# Altium footprint library Quad Flat No Lead Square.PcbLib: 20 footprints (part 1 of 2)
Each footprint in its own frame and in the unit in brackets; x right, y up, seen from the top. Pads: shape width x height; smd on the part's side, far side on the other; paste and mask are expansions set on the pad; w line width, h text height; cw(c..) or ccw(c..) is an arc to the next point about the centre after c.
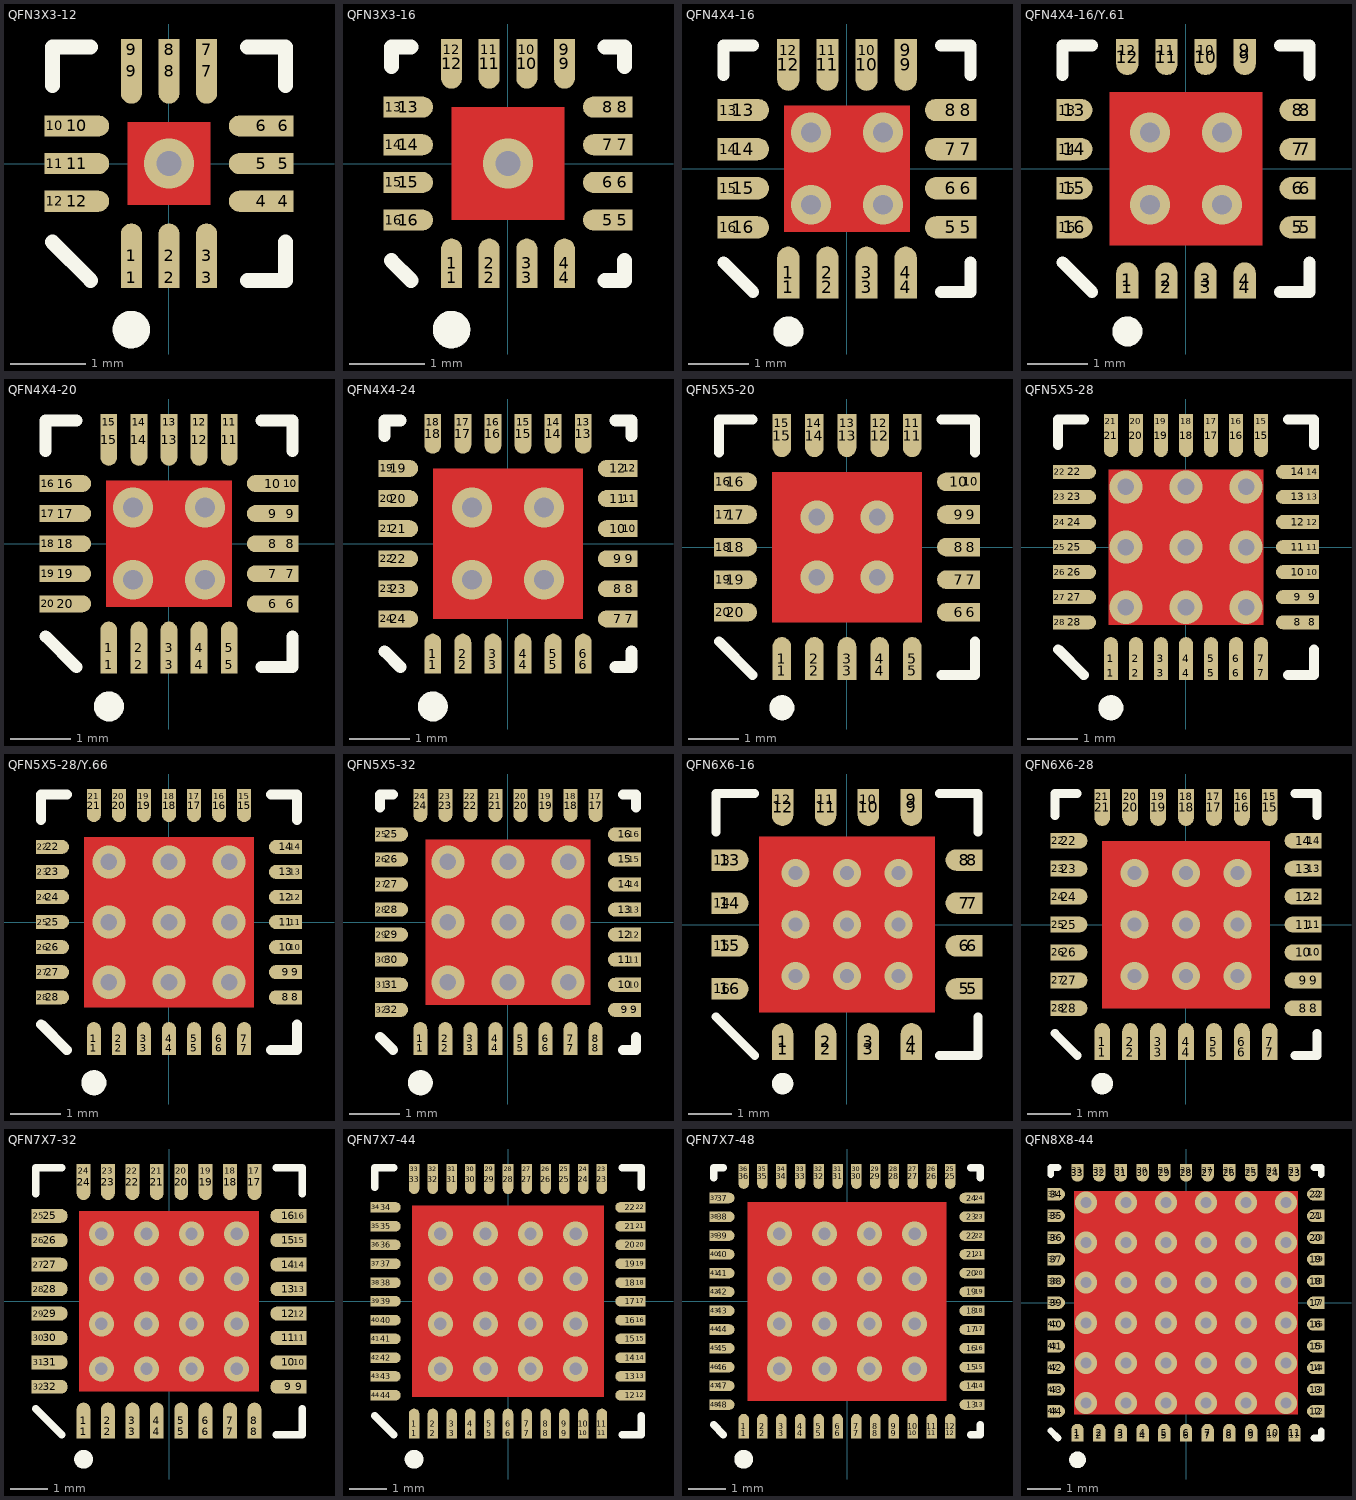
[diagram p0: the footprints below, top view; thin cyan lines are the x and y axes]

## QFN3X3-12 [mm] "Quad Flat No Lead; 12 Terminals; Body 3 x 3 mm; Pitch 0.5 mm"
height 1
pads (24):
  rect 0.28x0.28 smd: 1(-0.5,-1.515) 2(0,-1.515) 3(0.5,-1.515) 4(1.515,-0.5) 5(1.515,0) 6(1.515,0.5) 7(0.5,1.515) 8(0,1.515) 9(-0.5,1.515) 10(-1.515,0.5) 11(-1.515,0) 12(-1.515,-0.5)
  oval 0.28x0.86 smd: 1(-0.5,-1.225) 2(0,-1.225) 3(0.5,-1.225) 7(0.5,1.225) 8(0,1.225) 9(-0.5,1.225)
  oval 0.86x0.28 smd: 4(1.225,-0.5) 5(1.225,0) 6(1.225,0.5) 10(-1.225,0.5) 11(-1.225,0) 12(-1.225,-0.5)
via 0,0 diameter 0.66 hole 0.33
Top Layer:
  rectangle: -0.55,-0.55 0.55,0.55
Top Overlay:
  circle w0.25: c-0.5,-2.205 r0.125
  lines w0.2: -1.55,-1.04 -1.04,-1.55 ; -1.55,1.04 -1.55,1.55 -1.04,1.55 ; 1.04,-1.55 1.55,-1.55 1.55,-1.04 ; 1.04,1.55 1.55,1.55 1.55,1.04

## QFN3X3-16 [mm] "Quad Flat No Lead, Plastic; 16 Terminals; Body 3 x 3 mm; Pitch 0.5 mm"
height 0.8
pads (32):
  rect 0.28x0.28 smd: 1(-0.75,-1.515) 2(-0.25,-1.515) 3(0.25,-1.515) 4(0.75,-1.515) 5(1.515,-0.75) 6(1.515,-0.25) 7(1.515,0.25) 8(1.515,0.75) 9(0.75,1.515) 10(0.25,1.515) 11(-0.25,1.515) 12(-0.75,1.515) 13(-1.515,0.75) 14(-1.515,0.25) 15(-1.515,-0.25) 16(-1.515,-0.75)
  oval 0.28x0.66 smd: 1(-0.75,-1.325) 2(-0.25,-1.325) 3(0.25,-1.325) 4(0.75,-1.325) 9(0.75,1.325) 10(0.25,1.325) 11(-0.25,1.325) 12(-0.75,1.325)
  oval 0.66x0.28 smd: 5(1.325,-0.75) 6(1.325,-0.25) 7(1.325,0.25) 8(1.325,0.75) 13(-1.325,0.75) 14(-1.325,0.25) 15(-1.325,-0.25) 16(-1.325,-0.75)
via 0,0 diameter 0.66 hole 0.33
Top Layer:
  rectangle: -0.75,-0.75 0.75,0.75
Top Overlay:
  circle w0.25: c-0.75,-2.205 r0.125
  lines w0.2: -1.55,-1.29 -1.29,-1.55 ; -1.55,1.29 -1.55,1.55 -1.29,1.55 ; 1.29,-1.55 1.55,-1.55 1.55,-1.29 ; 1.29,1.55 1.55,1.55 1.55,1.29

## QFN4X4-16 [mm] "Quad Flat No Lead, Plastic; 16 Terminals; Body 4 x 4 mm; Pitch 0.65 mm"
height 0.8
pads (32):
  rect 0.37x0.37 smd: 1(-0.975,-1.97) 2(-0.325,-1.97) 3(0.325,-1.97) 4(0.975,-1.97) 5(1.97,-0.975) 6(1.97,-0.325) 7(1.97,0.325) 8(1.97,0.975) 9(0.975,1.97) 10(0.325,1.97) 11(-0.325,1.97) 12(-0.975,1.97) 13(-1.97,0.975) 14(-1.97,0.325) 15(-1.97,-0.325) 16(-1.97,-0.975)
  oval 0.37x0.86 smd: 1(-0.975,-1.725) 2(-0.325,-1.725) 3(0.325,-1.725) 4(0.975,-1.725) 9(0.975,1.725) 10(0.325,1.725) 11(-0.325,1.725) 12(-0.975,1.725)
  oval 0.86x0.37 smd: 5(1.725,-0.975) 6(1.725,-0.325) 7(1.725,0.325) 8(1.725,0.975) 13(-1.725,0.975) 14(-1.725,0.325) 15(-1.725,-0.325) 16(-1.725,-0.975)
via -0.6,-0.6 diameter 0.66 hole 0.33
via 0.6,-0.6 diameter 0.66 hole 0.33
via 0.6,0.6 diameter 0.66 hole 0.33
via -0.6,0.6 diameter 0.66 hole 0.33
Top Layer:
  rectangle: -1.05,-1.05 1.05,1.05
Top Overlay:
  circle w0.25: c-0.975,-2.705 r0.125
  lines w0.2: -2.05,-1.56 -1.56,-2.05 ; -2.05,1.56 -2.05,2.05 -1.56,2.05 ; 1.56,-2.05 2.05,-2.05 2.05,-1.56 ; 1.56,2.05 2.05,2.05 2.05,1.56

## QFN4X4-16/Y.61 [mm] "Quad Flat No Lead, Plastic; 16 Terminals; Body 4 x 4 mm; Pitch 0.65 mm"
height 1
pads (32):
  rect 0.37x0.37 smd: 1(-0.975,-1.97) 2(-0.325,-1.97) 3(0.325,-1.97) 4(0.975,-1.97) 5(1.97,-0.975) 6(1.97,-0.325) 7(1.97,0.325) 8(1.97,0.975) 9(0.975,1.97) 10(0.325,1.97) 11(-0.325,1.97) 12(-0.975,1.97) 13(-1.97,0.975) 14(-1.97,0.325) 15(-1.97,-0.325) 16(-1.97,-0.975)
  oval 0.37x0.6 smd: 1(-0.975,-1.855) 2(-0.325,-1.855) 3(0.325,-1.855) 4(0.975,-1.855) 9(0.975,1.855) 10(0.325,1.855) 11(-0.325,1.855) 12(-0.975,1.855)
  oval 0.6x0.37 smd: 5(1.855,-0.975) 6(1.855,-0.325) 7(1.855,0.325) 8(1.855,0.975) 13(-1.855,0.975) 14(-1.855,0.325) 15(-1.855,-0.325) 16(-1.855,-0.975)
via -0.6,-0.6 diameter 0.66 hole 0.33
via 0.6,-0.6 diameter 0.66 hole 0.33
via 0.6,0.6 diameter 0.66 hole 0.33
via -0.6,0.6 diameter 0.66 hole 0.33
Top Layer:
  rectangle: -1.275,-1.275 1.275,1.275
Top Overlay:
  circle w0.25: c-0.975,-2.705 r0.125
  lines w0.2: -2.05,-1.56 -1.56,-2.05 ; -2.05,1.56 -2.05,2.05 -1.56,2.05 ; 1.56,-2.05 2.05,-2.05 2.05,-1.56 ; 1.56,2.05 2.05,2.05 2.05,1.56

## QFN4X4-20 [mm] "Quad Flat No Lead; 20 Terminals; Body 4 x 4 mm; Pitch 0.5 mm"
height 1
pads (40):
  rect 0.28x0.28 smd: 1(-1,-2.015) 2(-0.5,-2.015) 3(0,-2.015) 4(0.5,-2.015) 5(1,-2.015) 6(2.015,-1) 7(2.015,-0.5) 8(2.015,0) 9(2.015,0.5) 10(2.015,1) 11(1,2.015) 12(0.5,2.015) 13(0,2.015) 14(-0.5,2.015) 15(-1,2.015) 16(-2.015,1) 17(-2.015,0.5) 18(-2.015,0) 19(-2.015,-0.5) 20(-2.015,-1)
  oval 0.28x0.86 smd: 1(-1,-1.725) 2(-0.5,-1.725) 3(0,-1.725) 4(0.5,-1.725) 5(1,-1.725) 11(1,1.725) 12(0.5,1.725) 13(0,1.725) 14(-0.5,1.725) 15(-1,1.725)
  oval 0.86x0.28 smd: 6(1.725,-1) 7(1.725,-0.5) 8(1.725,0) 9(1.725,0.5) 10(1.725,1) 16(-1.725,1) 17(-1.725,0.5) 18(-1.725,0) 19(-1.725,-0.5) 20(-1.725,-1)
via -0.6,-0.6 diameter 0.66 hole 0.33
via 0.6,-0.6 diameter 0.66 hole 0.33
via 0.6,0.6 diameter 0.66 hole 0.33
via -0.6,0.6 diameter 0.66 hole 0.33
Top Layer:
  rectangle: -1.05,-1.05 1.05,1.05
Top Overlay:
  circle w0.25: c-1,-2.705 r0.125
  lines w0.2: -2.05,-1.54 -1.54,-2.05 ; -2.05,1.54 -2.05,2.05 -1.54,2.05 ; 1.54,-2.05 2.05,-2.05 2.05,-1.54 ; 1.54,2.05 2.05,2.05 2.05,1.54

## QFN4X4-24 [mm] "Quad Flat No Lead, Plastic; 24 Terminals; Body 4 x 4 mm; Pitch 0.5 mm"
height 0.8
pads (48):
  rect 0.28x0.28 smd: 1(-1.25,-2.015) 2(-0.75,-2.015) 3(-0.25,-2.015) 4(0.25,-2.015) 5(0.75,-2.015) 6(1.25,-2.015) 7(2.015,-1.25) 8(2.015,-0.75) 9(2.015,-0.25) 10(2.015,0.25) 11(2.015,0.75) 12(2.015,1.25) 13(1.25,2.015) 14(0.75,2.015) 15(0.25,2.015) 16(-0.25,2.015) 17(-0.75,2.015) 18(-1.25,2.015) 19(-2.015,1.25) 20(-2.015,0.75) 21(-2.015,0.25) 22(-2.015,-0.25) 23(-2.015,-0.75) 24(-2.015,-1.25)
  oval 0.28x0.66 smd: 1(-1.25,-1.825) 2(-0.75,-1.825) 3(-0.25,-1.825) 4(0.25,-1.825) 5(0.75,-1.825) 6(1.25,-1.825) 13(1.25,1.825) 14(0.75,1.825) 15(0.25,1.825) 16(-0.25,1.825) 17(-0.75,1.825) 18(-1.25,1.825)
  oval 0.66x0.28 smd: 7(1.825,-1.25) 8(1.825,-0.75) 9(1.825,-0.25) 10(1.825,0.25) 11(1.825,0.75) 12(1.825,1.25) 19(-1.825,1.25) 20(-1.825,0.75) 21(-1.825,0.25) 22(-1.825,-0.25) 23(-1.825,-0.75) 24(-1.825,-1.25)
via -0.6,0.6 diameter 0.66 hole 0.33
via 0.6,0.6 diameter 0.66 hole 0.33
via 0.6,-0.6 diameter 0.66 hole 0.33
via -0.6,-0.6 diameter 0.66 hole 0.33
Top Layer:
  rectangle: -1.25,-1.25 1.25,1.25
Top Overlay:
  circle w0.25: c-1.25,-2.705 r0.125
  lines w0.2: -2.05,-1.79 -1.79,-2.05 ; -2.05,1.79 -2.05,2.05 -1.79,2.05 ; 1.79,-2.05 2.05,-2.05 2.05,-1.79 ; 1.79,2.05 2.05,2.05 2.05,1.79

## QFN5X5-20 [mm] "Quad Flat No Lead, Plastic; 20 Terminals; Body 5 x 5 mm; Pitch 0.65 mm"
height 1
pads (40):
  rect 0.37x0.37 smd: 1(-1.3,-2.47) 2(-0.65,-2.47) 3(0,-2.47) 4(0.65,-2.47) 5(1.3,-2.47) 6(2.47,-1.3) 7(2.47,-0.65) 8(2.47,0) 9(2.47,0.65) 10(2.47,1.3) 11(1.3,2.47) 12(0.65,2.47) 13(0,2.47) 14(-0.65,2.47) 15(-1.3,2.47) 16(-2.47,1.3) 17(-2.47,0.65) 18(-2.47,0) 19(-2.47,-0.65) 20(-2.47,-1.3)
  oval 0.37x0.86 smd: 1(-1.3,-2.225) 2(-0.65,-2.225) 3(0,-2.225) 4(0.65,-2.225) 5(1.3,-2.225) 11(1.3,2.225) 12(0.65,2.225) 13(0,2.225) 14(-0.65,2.225) 15(-1.3,2.225)
  oval 0.86x0.37 smd: 6(2.225,-1.3) 7(2.225,-0.65) 8(2.225,0) 9(2.225,0.65) 10(2.225,1.3) 16(-2.225,1.3) 17(-2.225,0.65) 18(-2.225,0) 19(-2.225,-0.65) 20(-2.225,-1.3)
via -0.6,-0.6 diameter 0.66 hole 0.33
via 0.6,-0.6 diameter 0.66 hole 0.33
via 0.6,0.6 diameter 0.66 hole 0.33
via -0.6,0.6 diameter 0.66 hole 0.33
Top Layer:
  rectangle: -1.5,-1.5 1.5,1.5
Top Overlay:
  circle w0.25: c-1.3,-3.205 r0.125
  lines w0.2: -2.55,-1.885 -1.885,-2.55 ; -2.55,1.885 -2.55,2.55 -1.885,2.55 ; 1.885,-2.55 2.55,-2.55 2.55,-1.885 ; 1.885,2.55 2.55,2.55 2.55,1.885

## QFN5X5-28 [mm] "Quad Flat No Lead, Plastic; 28 Terminals; Body 5 x 5 mm; Pitch 0.5 mm"
height 1
pads (56):
  rect 0.28x0.28 smd: 1(-1.5,-2.515) 2(-1,-2.515) 3(-0.5,-2.515) 4(0,-2.515) 5(0.5,-2.515) 6(1,-2.515) 7(1.5,-2.515) 8(2.515,-1.5) 9(2.515,-1) 10(2.515,-0.5) 11(2.515,0) 12(2.515,0.5) 13(2.515,1) 14(2.515,1.5) 15(1.5,2.515) 16(1,2.515) 17(0.5,2.515) 18(0,2.515) 19(-0.5,2.515) 20(-1,2.515) 21(-1.5,2.515) 22(-2.515,1.5) 23(-2.515,1) 24(-2.515,0.5) 25(-2.515,0) 26(-2.515,-0.5) 27(-2.515,-1) 28(-2.515,-1.5)
  oval 0.28x0.86 smd: 1(-1.5,-2.225) 2(-1,-2.225) 3(-0.5,-2.225) 4(0,-2.225) 5(0.5,-2.225) 6(1,-2.225) 7(1.5,-2.225) 15(1.5,2.225) 16(1,2.225) 17(0.5,2.225) 18(0,2.225) 19(-0.5,2.225) 20(-1,2.225) 21(-1.5,2.225)
  oval 0.86x0.28 smd: 8(2.225,-1.5) 9(2.225,-1) 10(2.225,-0.5) 11(2.225,0) 12(2.225,0.5) 13(2.225,1) 14(2.225,1.5) 22(-2.225,1.5) 23(-2.225,1) 24(-2.225,0.5) 25(-2.225,0) 26(-2.225,-0.5) 27(-2.225,-1) 28(-2.225,-1.5)
via 1.2,-1.2 diameter 0.66 hole 0.33
via 1.2,0 diameter 0.66 hole 0.33
via 1.2,1.2 diameter 0.66 hole 0.33
via 0,1.2 diameter 0.66 hole 0.33
via 0,0 diameter 0.66 hole 0.33
via 0,-1.2 diameter 0.66 hole 0.33
via -1.2,-1.2 diameter 0.66 hole 0.33
via -1.2,0 diameter 0.66 hole 0.33
via -1.2,1.2 diameter 0.66 hole 0.33
Top Layer:
  rectangle: -1.55,-1.55 1.55,1.55
Top Overlay:
  circle w0.25: c-1.5,-3.205 r0.125
  lines w0.2: -2.55,-2.04 -2.04,-2.55 ; -2.55,2.04 -2.55,2.55 -2.04,2.55 ; 2.04,-2.55 2.55,-2.55 2.55,-2.04 ; 2.04,2.55 2.55,2.55 2.55,2.04

## QFN5X5-28/Y.66 [mm] "Quad Flat No Lead, Plastic; 28 Terminals; Body 5 x 5 mm; Pitch 0.5 mm"
height 1
pads (56):
  rect 0.28x0.28 smd: 1(-1.5,-2.515) 2(-1,-2.515) 3(-0.5,-2.515) 4(0,-2.515) 5(0.5,-2.515) 6(1,-2.515) 7(1.5,-2.515) 8(2.515,-1.5) 9(2.515,-1) 10(2.515,-0.5) 11(2.515,0) 12(2.515,0.5) 13(2.515,1) 14(2.515,1.5) 15(1.5,2.515) 16(1,2.515) 17(0.5,2.515) 18(0,2.515) 19(-0.5,2.515) 20(-1,2.515) 21(-1.5,2.515) 22(-2.515,1.5) 23(-2.515,1) 24(-2.515,0.5) 25(-2.515,0) 26(-2.515,-0.5) 27(-2.515,-1) 28(-2.515,-1.5)
  oval 0.28x0.66 smd: 1(-1.5,-2.325) 2(-1,-2.325) 3(-0.5,-2.325) 4(0,-2.325) 5(0.5,-2.325) 6(1,-2.325) 7(1.5,-2.325) 15(1.5,2.325) 16(1,2.325) 17(0.5,2.325) 18(0,2.325) 19(-0.5,2.325) 20(-1,2.325) 21(-1.5,2.325)
  oval 0.66x0.28 smd: 8(2.325,-1.5) 9(2.325,-1) 10(2.325,-0.5) 11(2.325,0) 12(2.325,0.5) 13(2.325,1) 14(2.325,1.5) 22(-2.325,1.5) 23(-2.325,1) 24(-2.325,0.5) 25(-2.325,0) 26(-2.325,-0.5) 27(-2.325,-1) 28(-2.325,-1.5)
via -1.2,1.2 diameter 0.66 hole 0.33
via 0,1.2 diameter 0.66 hole 0.33
via 1.2,1.2 diameter 0.66 hole 0.33
via 1.2,0 diameter 0.66 hole 0.33
via 1.2,-1.2 diameter 0.66 hole 0.33
via 0,-1.2 diameter 0.66 hole 0.33
via -1.2,-1.2 diameter 0.66 hole 0.33
via -1.2,0 diameter 0.66 hole 0.33
via 0,0 diameter 0.66 hole 0.33
Top Layer:
  rectangle: -1.7,-1.7 1.7,1.7
Top Overlay:
  circle w0.25: c-1.5,-3.205 r0.125
  lines w0.2: -2.55,-2.04 -2.04,-2.55 ; -2.55,2.04 -2.55,2.55 -2.04,2.55 ; 2.04,-2.55 2.55,-2.55 2.55,-2.04 ; 2.04,2.55 2.55,2.55 2.55,2.04

## QFN5X5-32 [mm] "Quad Flat No Lead; 32 Terminals; Body 5 x 5 mm; Pitch 0.5 mm"
height 1
pads (64):
  rect 0.28x0.28 smd: 1(-1.75,-2.515) 2(-1.25,-2.515) 3(-0.75,-2.515) 4(-0.25,-2.515) 5(0.25,-2.515) 6(0.75,-2.515) 7(1.25,-2.515) 8(1.75,-2.515) 9(2.515,-1.75) 10(2.515,-1.25) 11(2.515,-0.75) 12(2.515,-0.25) 13(2.515,0.25) 14(2.515,0.75) 15(2.515,1.25) 16(2.515,1.75) 17(1.75,2.515) 18(1.25,2.515) 19(0.75,2.515) 20(0.25,2.515) 21(-0.25,2.515) 22(-0.75,2.515) 23(-1.25,2.515) 24(-1.75,2.515) 25(-2.515,1.75) 26(-2.515,1.25) 27(-2.515,0.75) 28(-2.515,0.25) 29(-2.515,-0.25) 30(-2.515,-0.75) 31(-2.515,-1.25) 32(-2.515,-1.75)
  oval 0.28x0.66 smd: 1(-1.75,-2.325) 2(-1.25,-2.325) 3(-0.75,-2.325) 4(-0.25,-2.325) 5(0.25,-2.325) 6(0.75,-2.325) 7(1.25,-2.325) 8(1.75,-2.325) 17(1.75,2.325) 18(1.25,2.325) 19(0.75,2.325) 20(0.25,2.325) 21(-0.25,2.325) 22(-0.75,2.325) 23(-1.25,2.325) 24(-1.75,2.325)
  oval 0.66x0.28 smd: 9(2.325,-1.75) 10(2.325,-1.25) 11(2.325,-0.75) 12(2.325,-0.25) 13(2.325,0.25) 14(2.325,0.75) 15(2.325,1.25) 16(2.325,1.75) 25(-2.325,1.75) 26(-2.325,1.25) 27(-2.325,0.75) 28(-2.325,0.25) 29(-2.325,-0.25) 30(-2.325,-0.75) 31(-2.325,-1.25) 32(-2.325,-1.75)
via 0,0 diameter 0.66 hole 0.33
via -1.2,0 diameter 0.66 hole 0.33
via -1.2,-1.2 diameter 0.66 hole 0.33
via 0,-1.2 diameter 0.66 hole 0.33
via 1.2,-1.2 diameter 0.66 hole 0.33
via 1.2,0 diameter 0.66 hole 0.33
via 1.2,1.2 diameter 0.66 hole 0.33
via 0,1.2 diameter 0.66 hole 0.33
via -1.2,1.2 diameter 0.66 hole 0.33
Top Layer:
  rectangle: -1.65,-1.65 1.65,1.65
Top Overlay:
  circle w0.25: c-1.75,-3.205 r0.125
  lines w0.2: -2.55,-2.29 -2.29,-2.55 ; -2.55,2.29 -2.55,2.55 -2.29,2.55 ; 2.29,-2.55 2.55,-2.55 2.55,-2.29 ; 2.29,2.55 2.55,2.55 2.55,2.29

## QFN6X6-16 [mm] "Quad Flat No Lead; 16 Terminals; Body 6 x 6 mm; Pitch 1 mm"
height 2.08
pads (32):
  rect 0.5x0.5 smd: 1(-1.5,-2.905) 2(-0.5,-2.905) 3(0.5,-2.905) 4(1.5,-2.905) 5(2.905,-1.5) 6(2.905,-0.5) 7(2.905,0.5) 8(2.905,1.5) 9(1.5,2.905) 10(0.5,2.905) 11(-0.5,2.905) 12(-1.5,2.905) 13(-2.905,1.5) 14(-2.905,0.5) 15(-2.905,-0.5) 16(-2.905,-1.5)
  oval 0.5x0.86 smd: 1(-1.5,-2.725) 2(-0.5,-2.725) 3(0.5,-2.725) 4(1.5,-2.725) 9(1.5,2.725) 10(0.5,2.725) 11(-0.5,2.725) 12(-1.5,2.725)
  oval 0.86x0.5 smd: 5(2.725,-1.5) 6(2.725,-0.5) 7(2.725,0.5) 8(2.725,1.5) 13(-2.725,1.5) 14(-2.725,0.5) 15(-2.725,-0.5) 16(-2.725,-1.5)
via 0,0 diameter 0.66 hole 0.33
via -1.2,0 diameter 0.66 hole 0.33
via -1.2,-1.2 diameter 0.66 hole 0.33
via 0,-1.2 diameter 0.66 hole 0.33
via 1.2,-1.2 diameter 0.66 hole 0.33
via 1.2,0 diameter 0.66 hole 0.33
via 1.2,1.2 diameter 0.66 hole 0.33
via 0,1.2 diameter 0.66 hole 0.33
via -1.2,1.2 diameter 0.66 hole 0.33
Top Layer:
  rectangle: -2.05,-2.05 2.05,2.05
Top Overlay:
  circle w0.25: c-1.5,-3.705 r0.125
  lines w0.2: -3.05,-2.15 -2.15,-3.05 ; -3.05,2.15 -3.05,3.05 -2.15,3.05 ; 2.15,-3.05 3.05,-3.05 3.05,-2.15 ; 2.15,3.05 3.05,3.05 3.05,2.15

## QFN6X6-28 [mm] "Quad Flat No Lead, Plastic, Punch; 28 Terminals; Body 6 x 6 mm; Pitch 0.65 mm"
height 1
pads (56):
  rect 0.37x0.37 smd: 1(-1.95,-2.97) 2(-1.3,-2.97) 3(-0.65,-2.97) 4(0,-2.97) 5(0.65,-2.97) 6(1.3,-2.97) 7(1.95,-2.97) 8(2.97,-1.95) 9(2.97,-1.3) 10(2.97,-0.65) 11(2.97,0) 12(2.97,0.65) 13(2.97,1.3) 14(2.97,1.95) 15(1.95,2.97) 16(1.3,2.97) 17(0.65,2.97) 18(0,2.97) 19(-0.65,2.97) 20(-1.3,2.97) 21(-1.95,2.97) 22(-2.97,1.95) 23(-2.97,1.3) 24(-2.97,0.65) 25(-2.97,0) 26(-2.97,-0.65) 27(-2.97,-1.3) 28(-2.97,-1.95)
  oval 0.37x0.86 smd: 1(-1.95,-2.725) 2(-1.3,-2.725) 3(-0.65,-2.725) 4(0,-2.725) 5(0.65,-2.725) 6(1.3,-2.725) 7(1.95,-2.725) 15(1.95,2.725) 16(1.3,2.725) 17(0.65,2.725) 18(0,2.725) 19(-0.65,2.725) 20(-1.3,2.725) 21(-1.95,2.725)
  oval 0.86x0.37 smd: 8(2.725,-1.95) 9(2.725,-1.3) 10(2.725,-0.65) 11(2.725,0) 12(2.725,0.65) 13(2.725,1.3) 14(2.725,1.95) 22(-2.725,1.95) 23(-2.725,1.3) 24(-2.725,0.65) 25(-2.725,0) 26(-2.725,-0.65) 27(-2.725,-1.3) 28(-2.725,-1.95)
via -1.2,1.2 diameter 0.66 hole 0.33
via -1.2,0 diameter 0.66 hole 0.33
via -1.2,-1.2 diameter 0.66 hole 0.33
via 0,-1.2 diameter 0.66 hole 0.33
via 0,0 diameter 0.66 hole 0.33
via 0,1.2 diameter 0.66 hole 0.33
via 1.2,1.2 diameter 0.66 hole 0.33
via 1.2,0 diameter 0.66 hole 0.33
via 1.2,-1.2 diameter 0.66 hole 0.33
Top Layer:
  rectangle: -1.95,-1.95 1.95,1.95
Top Overlay:
  circle w0.25: c-1.95,-3.705 r0.125
  lines w0.2: -3.05,-2.535 -2.535,-3.05 ; -3.05,2.535 -3.05,3.05 -2.535,3.05 ; 2.535,-3.05 3.05,-3.05 3.05,-2.535 ; 2.535,3.05 3.05,3.05 3.05,2.535

## QFN7X7-32 [mm] "Quad Flat No Lead, Plastic; 32 Terminals; Body 7 x 7 mm; Pitch 0.65 mm"
height 1
pads (64):
  rect 0.37x0.37 smd: 1(-2.275,-3.47) 2(-1.625,-3.47) 3(-0.975,-3.47) 4(-0.325,-3.47) 5(0.325,-3.47) 6(0.975,-3.47) 7(1.625,-3.47) 8(2.275,-3.47) 9(3.47,-2.275) 10(3.47,-1.625) 11(3.47,-0.975) 12(3.47,-0.325) 13(3.47,0.325) 14(3.47,0.975) 15(3.47,1.625) 16(3.47,2.275) 17(2.275,3.47) 18(1.625,3.47) 19(0.975,3.47) 20(0.325,3.47) 21(-0.325,3.47) 22(-0.975,3.47) 23(-1.625,3.47) 24(-2.275,3.47) 25(-3.47,2.275) 26(-3.47,1.625) 27(-3.47,0.975) 28(-3.47,0.325) 29(-3.47,-0.325) 30(-3.47,-0.975) 31(-3.47,-1.625) 32(-3.47,-2.275)
  oval 0.37x0.96 smd: 1(-2.275,-3.175) 2(-1.625,-3.175) 3(-0.975,-3.175) 4(-0.325,-3.175) 5(0.325,-3.175) 6(0.975,-3.175) 7(1.625,-3.175) 8(2.275,-3.175) 17(2.275,3.175) 18(1.625,3.175) 19(0.975,3.175) 20(0.325,3.175) 21(-0.325,3.175) 22(-0.975,3.175) 23(-1.625,3.175) 24(-2.275,3.175)
  oval 0.96x0.37 smd: 9(3.175,-2.275) 10(3.175,-1.625) 11(3.175,-0.975) 12(3.175,-0.325) 13(3.175,0.325) 14(3.175,0.975) 15(3.175,1.625) 16(3.175,2.275) 25(-3.175,2.275) 26(-3.175,1.625) 27(-3.175,0.975) 28(-3.175,0.325) 29(-3.175,-0.325) 30(-3.175,-0.975) 31(-3.175,-1.625) 32(-3.175,-2.275)
via 1.8,1.8 diameter 0.66 hole 0.33
via 1.8,0.6 diameter 0.66 hole 0.33
via 1.8,-0.6 diameter 0.66 hole 0.33
via 1.8,-1.8 diameter 0.66 hole 0.33
via 0.6,-1.8 diameter 0.66 hole 0.33
via 0.6,-0.6 diameter 0.66 hole 0.33
via 0.6,0.6 diameter 0.66 hole 0.33
via 0.6,1.8 diameter 0.66 hole 0.33
via -0.6,1.8 diameter 0.66 hole 0.33
via -0.6,0.6 diameter 0.66 hole 0.33
via -0.6,-0.6 diameter 0.66 hole 0.33
via -0.6,-1.8 diameter 0.66 hole 0.33
via -1.8,-1.8 diameter 0.66 hole 0.33
via -1.8,-0.6 diameter 0.66 hole 0.33
via -1.8,0.6 diameter 0.66 hole 0.33
via -1.8,1.8 diameter 0.66 hole 0.33
Top Layer:
  rectangle: -2.4,-2.4 2.4,2.4
Top Overlay:
  circle w0.25: c-2.275,-4.205 r0.125
  lines w0.2: -3.55,-2.86 -2.86,-3.55 ; -3.55,2.86 -3.55,3.55 -2.86,3.55 ; 2.86,-3.55 3.55,-3.55 3.55,-2.86 ; 2.86,3.55 3.55,3.55 3.55,2.86

## QFN7X7-44 [mm] "Quad Flat No Lead; 44 Terminals; Body 7 x 7 mm; Pitch 0.5 mm"
height 1
pads (88):
  rect 0.28x0.28 smd: 1(-2.5,-3.515) 2(-2,-3.515) 3(-1.5,-3.515) 4(-1,-3.515) 5(-0.5,-3.515) 6(0,-3.515) 7(0.5,-3.515) 8(1,-3.515) 9(1.5,-3.515) 10(2,-3.515) 11(2.5,-3.515) 12(3.515,-2.5) 13(3.515,-2) 14(3.515,-1.5) 15(3.515,-1) 16(3.515,-0.5) 17(3.515,0) 18(3.515,0.5) 19(3.515,1) 20(3.515,1.5) 21(3.515,2) 22(3.515,2.5) 23(2.5,3.515) 24(2,3.515) 25(1.5,3.515) 26(1,3.515) 27(0.5,3.515) 28(0,3.515) 29(-0.5,3.515) 30(-1,3.515) 31(-1.5,3.515) 32(-2,3.515) 33(-2.5,3.515) 34(-3.515,2.5) 35(-3.515,2) 36(-3.515,1.5) 37(-3.515,1) 38(-3.515,0.5) 39(-3.515,0) 40(-3.515,-0.5) 41(-3.515,-1) 42(-3.515,-1.5) 43(-3.515,-2) 44(-3.515,-2.5)
  oval 0.28x0.8 smd: 1(-2.5,-3.255) 2(-2,-3.255) 3(-1.5,-3.255) 4(-1,-3.255) 5(-0.5,-3.255) 6(0,-3.255) 7(0.5,-3.255) 8(1,-3.255) 9(1.5,-3.255) 10(2,-3.255) 11(2.5,-3.255) 23(2.5,3.255) 24(2,3.255) 25(1.5,3.255) 26(1,3.255) 27(0.5,3.255) 28(0,3.255) 29(-0.5,3.255) 30(-1,3.255) 31(-1.5,3.255) 32(-2,3.255) 33(-2.5,3.255)
  oval 0.8x0.28 smd: 12(3.255,-2.5) 13(3.255,-2) 14(3.255,-1.5) 15(3.255,-1) 16(3.255,-0.5) 17(3.255,0) 18(3.255,0.5) 19(3.255,1) 20(3.255,1.5) 21(3.255,2) 22(3.255,2.5) 34(-3.255,2.5) 35(-3.255,2) 36(-3.255,1.5) 37(-3.255,1) 38(-3.255,0.5) 39(-3.255,0) 40(-3.255,-0.5) 41(-3.255,-1) 42(-3.255,-1.5) 43(-3.255,-2) 44(-3.255,-2.5)
via 0.6,1.8 diameter 0.66 hole 0.33
via -0.6,1.8 diameter 0.66 hole 0.33
via -0.6,0.6 diameter 0.66 hole 0.33
via 0.6,0.6 diameter 0.66 hole 0.33
via 0.6,-0.6 diameter 0.66 hole 0.33
via -0.6,-0.6 diameter 0.66 hole 0.33
via -0.6,-1.8 diameter 0.66 hole 0.33
via 0.6,-1.8 diameter 0.66 hole 0.33
via 1.8,-1.8 diameter 0.66 hole 0.33
via 1.8,-0.6 diameter 0.66 hole 0.33
via 1.8,0.6 diameter 0.66 hole 0.33
via 1.8,1.8 diameter 0.66 hole 0.33
via -1.8,1.8 diameter 0.66 hole 0.33
via -1.8,0.6 diameter 0.66 hole 0.33
via -1.8,-0.6 diameter 0.66 hole 0.33
via -1.8,-1.8 diameter 0.66 hole 0.33
Top Layer:
  rectangle: -2.55,-2.55 2.55,2.55
Top Overlay:
  circle w0.25: c-2.5,-4.205 r0.125
  lines w0.2: -3.55,-3.04 -3.04,-3.55 ; -3.55,3.04 -3.55,3.55 -3.04,3.55 ; 3.04,-3.55 3.55,-3.55 3.55,-3.04 ; 3.04,3.55 3.55,3.55 3.55,3.04

## QFN7X7-48 [mm] "Quad Flat No Lead; 48 Terminals; Body 7 x 7 mm; Pitch 0.5 mm"
height 1
pads (96):
  rect 0.28x0.28 smd: 1(-2.75,-3.515) 2(-2.25,-3.515) 3(-1.75,-3.515) 4(-1.25,-3.515) 5(-0.75,-3.515) 6(-0.25,-3.515) 7(0.25,-3.515) 8(0.75,-3.515) 9(1.25,-3.515) 10(1.75,-3.515) 11(2.25,-3.515) 12(2.75,-3.515) 13(3.515,-2.75) 14(3.515,-2.25) 15(3.515,-1.75) 16(3.515,-1.25) 17(3.515,-0.75) 18(3.515,-0.25) 19(3.515,0.25) 20(3.515,0.75) 21(3.515,1.25) 22(3.515,1.75) 23(3.515,2.25) 24(3.515,2.75) 25(2.75,3.515) 26(2.25,3.515) 27(1.75,3.515) 28(1.25,3.515) 29(0.75,3.515) 30(0.25,3.515) 31(-0.25,3.515) 32(-0.75,3.515) 33(-1.25,3.515) 34(-1.75,3.515) 35(-2.25,3.515) 36(-2.75,3.515) 37(-3.515,2.75) 38(-3.515,2.25) 39(-3.515,1.75) 40(-3.515,1.25) 41(-3.515,0.75) 42(-3.515,0.25) 43(-3.515,-0.25) 44(-3.515,-0.75) 45(-3.515,-1.25) 46(-3.515,-1.75) 47(-3.515,-2.25) 48(-3.515,-2.75)
  oval 0.28x0.66 smd: 1(-2.75,-3.325) 2(-2.25,-3.325) 3(-1.75,-3.325) 4(-1.25,-3.325) 5(-0.75,-3.325) 6(-0.25,-3.325) 7(0.25,-3.325) 8(0.75,-3.325) 9(1.25,-3.325) 10(1.75,-3.325) 11(2.25,-3.325) 12(2.75,-3.325) 25(2.75,3.325) 26(2.25,3.325) 27(1.75,3.325) 28(1.25,3.325) 29(0.75,3.325) 30(0.25,3.325) 31(-0.25,3.325) 32(-0.75,3.325) 33(-1.25,3.325) 34(-1.75,3.325) 35(-2.25,3.325) 36(-2.75,3.325)
  oval 0.66x0.28 smd: 13(3.325,-2.75) 14(3.325,-2.25) 15(3.325,-1.75) 16(3.325,-1.25) 17(3.325,-0.75) 18(3.325,-0.25) 19(3.325,0.25) 20(3.325,0.75) 21(3.325,1.25) 22(3.325,1.75) 23(3.325,2.25) 24(3.325,2.75) 37(-3.325,2.75) 38(-3.325,2.25) 39(-3.325,1.75) 40(-3.325,1.25) 41(-3.325,0.75) 42(-3.325,0.25) 43(-3.325,-0.25) 44(-3.325,-0.75) 45(-3.325,-1.25) 46(-3.325,-1.75) 47(-3.325,-2.25) 48(-3.325,-2.75)
via 0.6,1.8 diameter 0.66 hole 0.33
via -0.6,1.8 diameter 0.66 hole 0.33
via -0.6,0.6 diameter 0.66 hole 0.33
via 0.6,0.6 diameter 0.66 hole 0.33
via 0.6,-0.6 diameter 0.66 hole 0.33
via -0.6,-0.6 diameter 0.66 hole 0.33
via -0.6,-1.8 diameter 0.66 hole 0.33
via 0.6,-1.8 diameter 0.66 hole 0.33
via 1.8,-1.8 diameter 0.66 hole 0.33
via 1.8,-0.6 diameter 0.66 hole 0.33
via 1.8,0.6 diameter 0.66 hole 0.33
via 1.8,1.8 diameter 0.66 hole 0.33
via -1.8,1.8 diameter 0.66 hole 0.33
via -1.8,0.6 diameter 0.66 hole 0.33
via -1.8,-0.6 diameter 0.66 hole 0.33
via -1.8,-1.8 diameter 0.66 hole 0.33
Top Layer:
  rectangle: -2.65,-2.65 2.65,2.65
Top Overlay:
  circle w0.25: c-2.75,-4.205 r0.125
  lines w0.2: -3.55,-3.29 -3.29,-3.55 ; -3.55,3.29 -3.55,3.55 -3.29,3.55 ; 3.29,-3.55 3.55,-3.55 3.55,-3.29 ; 3.29,3.55 3.55,3.55 3.55,3.29

## QFN8X8-44 [mm] "Quad Flat No Lead, Plastic; 44 Terminals; Body 8 x 8 mm; Pitch 0.65 mm"
height 1
pads (88):
  rect 0.37x0.37 smd: 1(-3.25,-3.97) 2(-2.6,-3.97) 3(-1.95,-3.97) 4(-1.3,-3.97) 5(-0.65,-3.97) 6(0,-3.97) 7(0.65,-3.97) 8(1.3,-3.97) 9(1.95,-3.97) 10(2.6,-3.97) 11(3.25,-3.97) 12(3.97,-3.25) 13(3.97,-2.6) 14(3.97,-1.95) 15(3.97,-1.3) 16(3.97,-0.65) 17(3.97,0) 18(3.97,0.65) 19(3.97,1.3) 20(3.97,1.95) 21(3.97,2.6) 22(3.97,3.25) 23(3.25,3.97) 24(2.6,3.97) 25(1.95,3.97) 26(1.3,3.97) 27(0.65,3.97) 28(0,3.97) 29(-0.65,3.97) 30(-1.3,3.97) 31(-1.95,3.97) 32(-2.6,3.97) 33(-3.25,3.97) 34(-3.97,3.25) 35(-3.97,2.6) 36(-3.97,1.95) 37(-3.97,1.3) 38(-3.97,0.65) 39(-3.97,0) 40(-3.97,-0.65) 41(-3.97,-1.3) 42(-3.97,-1.95) 43(-3.97,-2.6) 44(-3.97,-3.25)
  oval 0.37x0.53 smd: 1(-3.25,-3.89) 2(-2.6,-3.89) 3(-1.95,-3.89) 4(-1.3,-3.89) 5(-0.65,-3.89) 6(0,-3.89) 7(0.65,-3.89) 8(1.3,-3.89) 9(1.95,-3.89) 10(2.6,-3.89) 11(3.25,-3.89) 23(3.25,3.89) 24(2.6,3.89) 25(1.95,3.89) 26(1.3,3.89) 27(0.65,3.89) 28(0,3.89) 29(-0.65,3.89) 30(-1.3,3.89) 31(-1.95,3.89) 32(-2.6,3.89) 33(-3.25,3.89)
  oval 0.53x0.37 smd: 12(3.89,-3.25) 13(3.89,-2.6) 14(3.89,-1.95) 15(3.89,-1.3) 16(3.89,-0.65) 17(3.89,0) 18(3.89,0.65) 19(3.89,1.3) 20(3.89,1.95) 21(3.89,2.6) 22(3.89,3.25) 34(-3.89,3.25) 35(-3.89,2.6) 36(-3.89,1.95) 37(-3.89,1.3) 38(-3.89,0.65) 39(-3.89,0) 40(-3.89,-0.65) 41(-3.89,-1.3) 42(-3.89,-1.95) 43(-3.89,-2.6) 44(-3.89,-3.25)
via -3,-3 diameter 0.66 hole 0.33
via -3,-1.8 diameter 0.66 hole 0.33
via -3,-0.6 diameter 0.66 hole 0.33
via -3,0.6 diameter 0.66 hole 0.33
via -1.8,-3 diameter 0.66 hole 0.33
via -1.8,-1.8 diameter 0.66 hole 0.33
via -1.8,-0.6 diameter 0.66 hole 0.33
via -1.8,0.6 diameter 0.66 hole 0.33
via -0.6,-3 diameter 0.66 hole 0.33
via -0.6,-1.8 diameter 0.66 hole 0.33
via -0.6,-0.6 diameter 0.66 hole 0.33
via -0.6,0.6 diameter 0.66 hole 0.33
via 0.6,-3 diameter 0.66 hole 0.33
via 0.6,-1.8 diameter 0.66 hole 0.33
via 0.6,-0.6 diameter 0.66 hole 0.33
via 0.6,0.6 diameter 0.66 hole 0.33
via 1.8,-3 diameter 0.66 hole 0.33
via 1.8,-1.8 diameter 0.66 hole 0.33
via 1.8,-0.6 diameter 0.66 hole 0.33
via 1.8,0.6 diameter 0.66 hole 0.33
via 3,-3 diameter 0.66 hole 0.33
via 3,-1.8 diameter 0.66 hole 0.33
via 3,-0.6 diameter 0.66 hole 0.33
via 3,0.6 diameter 0.66 hole 0.33
via 0.6,3 diameter 0.66 hole 0.33
via -0.6,3 diameter 0.66 hole 0.33
via -1.8,3 diameter 0.66 hole 0.33
via -3,3 diameter 0.66 hole 0.33
via 0.6,1.8 diameter 0.66 hole 0.33
via -0.6,1.8 diameter 0.66 hole 0.33
via -1.8,1.8 diameter 0.66 hole 0.33
via -3,1.8 diameter 0.66 hole 0.33
via 1.8,1.8 diameter 0.66 hole 0.33
via 1.8,3 diameter 0.66 hole 0.33
via 3,3 diameter 0.66 hole 0.33
via 3,1.8 diameter 0.66 hole 0.33
Top Layer:
  rectangle: -3.35,-3.35 3.35,3.35
Top Overlay:
  circle w0.25: c-3.25,-4.705 r0.125
  lines w0.2: -4.05,-3.835 -3.835,-4.05 ; -4.05,3.835 -4.05,4.05 -3.835,4.05 ; 3.835,-4.05 4.05,-4.05 4.05,-3.835 ; 3.835,4.05 4.05,4.05 4.05,3.835